# EAGLE library part STM32F1_HIGH_DENSITY_LQFP64 (library adapter)
STM32F1_High_density_LQFP64 edit this description Auto generated by make-symbol-device-package-bsdl.ulp Rev. 43 Source: STM32F1_High_density_LQFP64.bsd
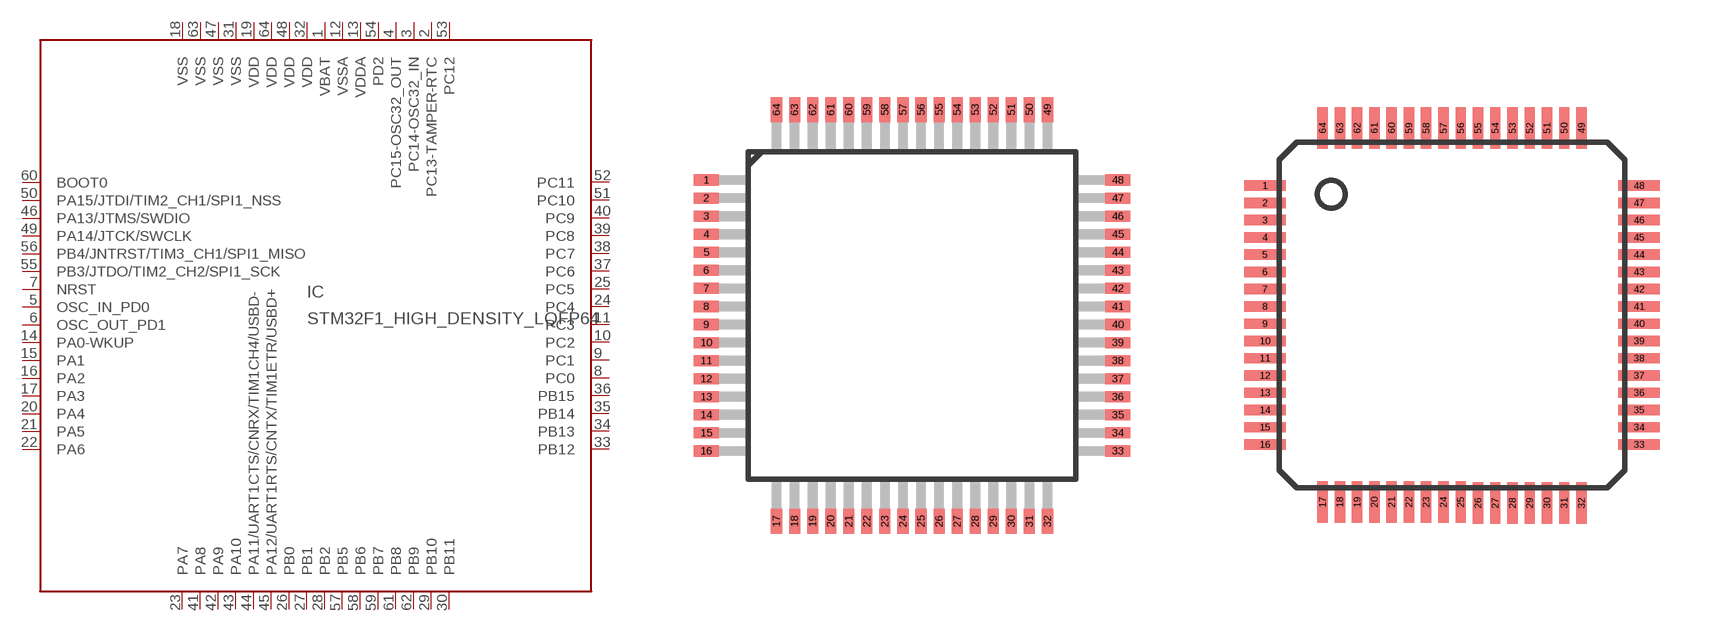
[diagram p0: symbol with the pads of LQFP64_PACKAGE; footprints LQFP64_PACKAGE, LQFP64A_PACKAGE]

Designator prefix IC

## STM32F1_HIGH_DENSITY_LQFP64LQF64  [LQFP64_PACKAGE]
1  VBAT  pas
2  PC13-TAMPER-RTC
3  PC14-OSC32_IN
4  PC15-OSC32_OUT
5  OSC_IN_PD0
6  OSC_OUT_PD1
7  NRST  in
8  PC0
9  PC1
10  PC2
11  PC3
12  VSSA  pwr
13  VDDA  pwr
14  PA0-WKUP
15  PA1
16  PA2
17  PA3
18  VSS  pwr
19  VDD  pwr
20  PA4
21  PA5
22  PA6
23  PA7
24  PC4
25  PC5
26  PB0
27  PB1
28  PB2
29  PB10
30  PB11
31  VSS  pwr
32  VDD  pwr
33  PB12
34  PB13
35  PB14
36  PB15
37  PC6
38  PC7
39  PC8
40  PC9
41  PA8
42  PA9
43  PA10
44  PA11/UART1CTS/CNRX/TIM1CH4/USBD-
45  PA12/UART1RTS/CNTX/TIM1ETR/USBD+
46  PA13/JTMS/SWDIO  in
47  VSS  pwr
48  VDD  pwr
49  PA14/JTCK/SWCLK  in
50  PA15/JTDI/TIM2_CH1/SPI1_NSS  in
51  PC10
52  PC11
53  PC12
54  PD2
55  PB3/JTDO/TIM2_CH2/SPI1_SCK  out
56  PB4/JNTRST/TIM3_CH1/SPI1_MISO  in
57  PB5
58  PB6
59  PB7
60  BOOT0  in
61  PB8
62  PB9
63  VSS  pwr
64  VDD  pwr

## STM32F1_HIGH_DENSITY_LQFP64LQFP64(10X10)  [LQFP64A_PACKAGE]
Pads as for LQFP64_PACKAGE

## Footprint LQFP64_PACKAGE (pad centres in mm)
LQFP64_PACKAGE Auto generated by make-symbol-device-package-bsdl.ulp Rev. 43
smd 0.9 x 0.4: 1 -7.406,4.875; 2 -7.406,4.225; 3 -7.406,3.575; 4 -7.406,2.925; 5 -7.406,2.275; 6 -7.406,1.625; 7 -7.406,0.975; 8 -7.406,0.325; 9 -7.406,-0.325; 10 -7.406,-0.975; 11 -7.406,-1.625; 12 -7.406,-2.275; 13 -7.406,-2.925; 14 -7.406,-3.575; 15 -7.406,-4.225; 16 -7.406,-4.875; 33 7.406,-4.875; 34 7.406,-4.225; 35 7.406,-3.575; 36 7.406,-2.925; 37 7.406,-2.275; 38 7.406,-1.625; 39 7.406,-0.975; 40 7.406,-0.325; 41 7.406,0.325; 42 7.406,0.975; 43 7.406,1.625; 44 7.406,2.275; 45 7.406,2.925; 46 7.406,3.575; 47 7.406,4.225; 48 7.406,4.875
smd 0.4 x 0.9: 17 -4.875,-7.406; 18 -4.225,-7.406; 19 -3.575,-7.406; 20 -2.925,-7.406; 21 -2.275,-7.406; 22 -1.625,-7.406; 23 -0.975,-7.406; 24 -0.325,-7.406; 25 0.325,-7.406; 26 0.975,-7.406; 27 1.625,-7.406; 28 2.275,-7.406; 29 2.925,-7.406; 30 3.575,-7.406; 31 4.225,-7.406; 32 4.875,-7.406; 49 4.875,7.406; 50 4.225,7.406; 51 3.575,7.406; 52 2.925,7.406; 53 2.275,7.406; 54 1.625,7.406; 55 0.975,7.406; 56 0.325,7.406; 57 -0.325,7.406; 58 -0.975,7.406; 59 -1.625,7.406; 60 -2.275,7.406; 61 -2.925,7.406; 62 -3.575,7.406; 63 -4.225,7.406; 64 -4.875,7.406

## Footprint LQFP64A_PACKAGE (pad centres in mm)
smd 1.2 x 0.3: 1 -5.42,3.75; 2 -5.42,3.25; 3 -5.42,2.75; 4 -5.42,2.25; 5 -5.42,1.75; 6 -5.42,1.25; 7 -5.42,0.75; 8 -5.42,0.25; 9 -5.42,-0.25; 10 -5.42,-0.75; 11 -5.42,-1.25; 12 -5.42,-1.75; 13 -5.42,-2.25; 14 -5.42,-2.75; 15 -5.42,-3.25; 16 -5.42,-3.75; 33 5.42,-3.75; 34 5.42,-3.25; 35 5.42,-2.75; 36 5.42,-2.25; 37 5.42,-1.75; 38 5.42,-1.25; 39 5.42,-0.75; 40 5.42,-0.25; 41 5.42,0.25; 42 5.42,0.75; 43 5.42,1.25; 44 5.42,1.75; 45 5.42,2.25; 46 5.42,2.75; 47 5.42,3.25; 48 5.42,3.75
smd 0.3 x 1.2: 17 -3.75,-5.42; 18 -3.25,-5.42; 19 -2.75,-5.42; 20 -2.25,-5.42; 21 -1.75,-5.42; 22 -1.25,-5.42; 23 -0.75,-5.42; 24 -0.25,-5.42; 25 0.25,-5.42; 26 0.75,-5.445; 27 1.25,-5.445; 28 1.75,-5.445; 29 2.25,-5.445; 30 2.75,-5.445; 31 3.25,-5.445; 32 3.75,-5.445; 49 3.75,5.42; 50 3.25,5.42; 51 2.75,5.42; 52 2.25,5.42; 53 1.75,5.42; 54 1.25,5.42; 55 0.75,5.42; 56 0.25,5.42; 57 -0.25,5.42; 58 -0.75,5.42; 59 -1.25,5.42; 60 -1.75,5.42; 61 -2.25,5.42; 62 -2.75,5.42; 63 -3.25,5.42; 64 -3.75,5.42